# Altium integrated library RJE7318800410.IntLib: 1 symbol
Pins are listed as number, name and electrical type; pins without a type are passive.

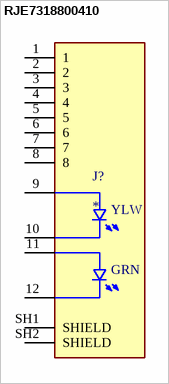
[diagram p0: symbol RJE7318800410]

## RJE7318800410
designator J?
MF: Amphenol ICC (Commercial Products); MP: RJE7318800410; Package: None; Price: None; Value: *; Availability: Unavailable
footprint AMPHENOL_RJE7318800410
pins: 1, 2, 3, 4, 5, 6, 7, 8, 9, 10, 11, 12, SH1 SHIELD, SH2 SHIELD
text: YLW; GRN